# EAGLE library part 68714514522 (library Eagle_FPC_CONNECTOR_AND_FFC_CAB (rev18c))
WR-FPC 0.5mm SMT ZIF Horizontal Bottom Contact, 45 Pins=>Code : Con_FPC_ZIF_0.50_68714514522 <http://katalog.we-online.de/media/images/eican/Con_FPC_ZIF_0.50_6871xx14522_pf2.jpg> Details see: http://katalog.we-online.de/en/em/687_1xx_145_22 Created 2014-07-09, Karrer Zheng 2014 (C) Würth Elektronik
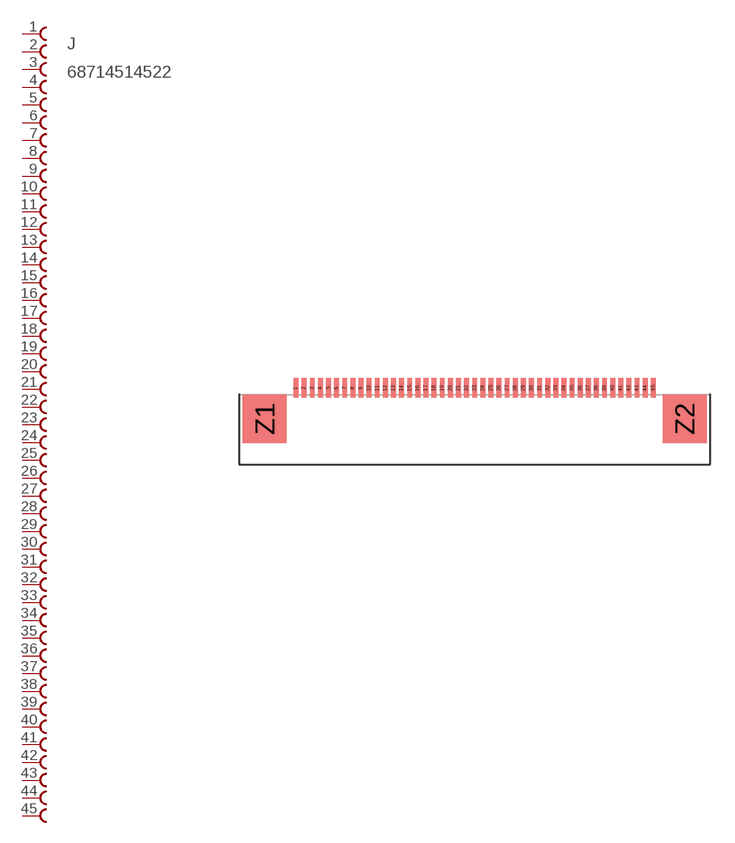
[diagram p69: symbol with the pads of 68714514522; footprint 68714514522]

Designator prefix J

## 68714514522  [68714514522]
1  1  pas
2  2  pas
3  3  pas
4  4  pas
5  5  pas
6  6  pas
7  7  pas
8  8  pas
9  9  pas
10  10  pas
11  11  pas
12  12  pas
13  13  pas
14  14  pas
15  15  pas
16  16  pas
17  17  pas
18  18  pas
19  19  pas
20  20  pas
21  21  pas
22  22  pas
23  23  pas
24  24  pas
25  25  pas
26  26  pas
27  27  pas
28  28  pas
29  29  pas
30  30  pas
31  31  pas
32  32  pas
33  33  pas
34  34  pas
35  35  pas
36  36  pas
37  37  pas
38  38  pas
39  39  pas
40  40  pas
41  41  pas
42  42  pas
43  43  pas
44  44  pas
45  45  pas

## Footprint 68714514522 (pad centres in mm)
WE-FPC 0.5mm SMT ZIF Horizontal Bottom Contact, 45 Pins
smd 0.3 x 1.2: 1 -11,1.9; 2 -10.5,1.9; 3 -10,1.9; 4 -9.5,1.9; 5 -9,1.9; 6 -8.5,1.9; 7 -8,1.9; 8 -7.5,1.9; 9 -7,1.9; 10 -6.5,1.9; 11 -6,1.9; 12 -5.5,1.9; 13 -5,1.9; 14 -4.5,1.9; 15 -4,1.9; 16 -3.5,1.9; 17 -3,1.9; 18 -2.5,1.9; 19 -2,1.9; 20 -1.5,1.9; 21 -1,1.9; 22 -0.5,1.9; 23 0,1.9; 24 0.5,1.9; 25 1,1.9; 26 1.5,1.9; 27 2,1.9; 28 2.5,1.9; 29 3,1.9; 30 3.5,1.9; 31 4,1.9; 32 4.5,1.9; 33 5,1.9; 34 5.5,1.9; 35 6,1.9; 36 6.5,1.9; 37 7,1.9; 38 7.5,1.9; 39 8,1.9; 40 8.5,1.9; 41 9,1.9; 42 9.5,1.9; 43 10,1.9; 44 10.5,1.9; 45 11,1.9
smd 2.7 x 3: Z1 -12.93,0; Z2 12.93,0